# EAGLE library part LT1046REG (library ldalibrary)
LT1046 Negative Regulator 5V --> -5V
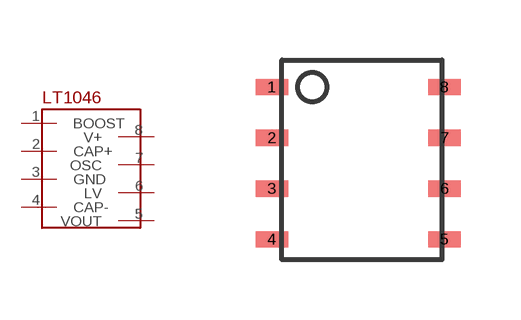
[diagram p2: symbol with the pads of S8; footprint S8]

Designator prefix -

## LT1046REG  [S8]
1  BOOST
2  CAP+
3  GND
4  CAP-
5  VOUT
6  LV
7  OSC
8  V+

## Footprint S8 (pad centres in mm)
LT1046
smd 0.813 x 0.406: 1 -0.254,4.318; 2 -0.254,3.048; 3 -0.254,1.778; 4 -0.254,0.508; 5 4.064,0.508; 6 4.064,1.778; 7 4.064,3.048; 8 4.064,4.318